# Altium schematic symbol library Connector-FPC.SchLib: 15 symbols
Pins are listed as number, name and electrical type; pins without a type are passive.

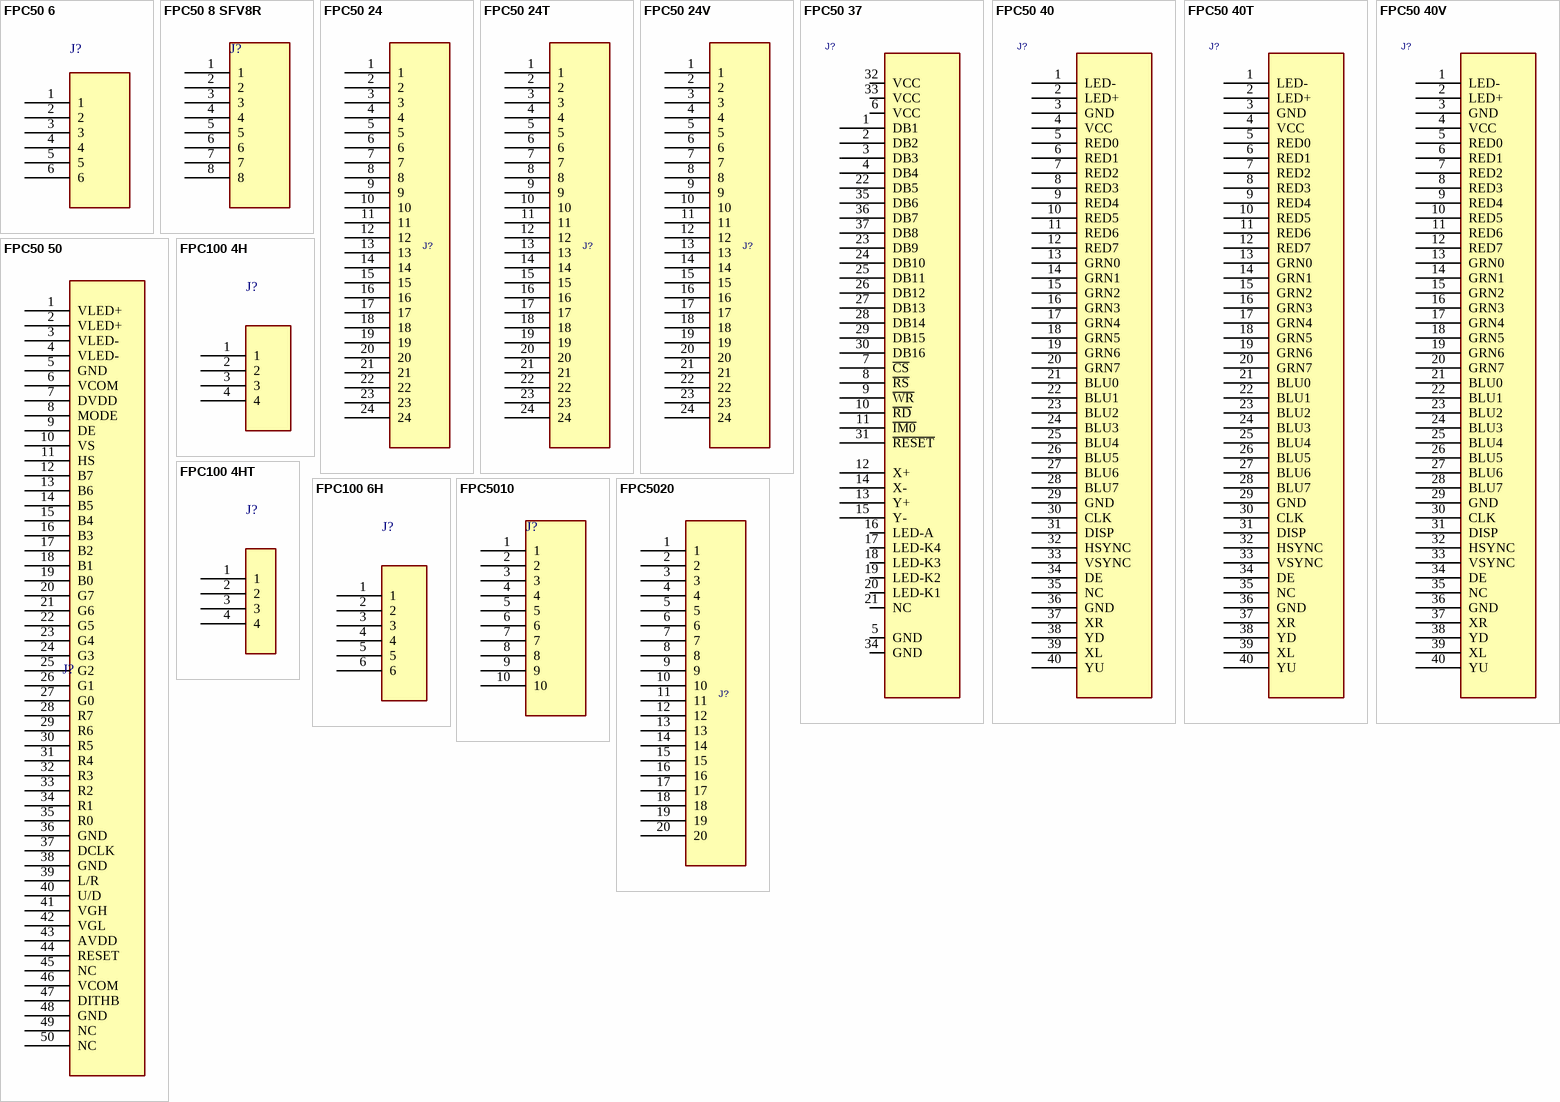
[diagram p0: symbols FPC50 6 to FPC5020]

## FPC50 6
designator J?
CONN, FPC, 0.50mm pitch, RightAngle, Bot. Contact, Hinge type; DatasheetVersion: 2022
footprint FPC50_6 (FFC-FPC 6pin pitch: 0.5mm FCI SFV6R1STBE1HLF)
pins: 1, 2, 3, 4, 5, 6

## FPC50 8 SFV8R
designator J?
CONN, FPC, 0.50mm pitch, RightAngle, Top. Contact, Slide type; DatasheetVersion: 2022
footprint FPC50_8_SFV8R (FPC 8pin pitch: 0.5mm FCI SFV8R-2STE1HLF)
pins: 1, 2, 3, 4, 5, 6, 7, 8

## FPC50 24
designator J?
CONN, FPC, 0.50mm pitch, RightAngle, Bot. Contact; DatasheetVersion: 2022
footprint FPC50_24 (FPC, FH12 Series; 24 Position; 0.5mm, Bottom Contact, FH12F-24S-0.5SH)
pins: 1, 2, 3, 4, 5, 6, 7, 8, 9, 10, 11, 12, 13, 14, 15, 16, 17, 18, 19, 20, 21, 22, 23, 24

## FPC50 24T
designator J?
CONN, FPC, 0.50mm pitch, RightAngle, Top Contact; DatasheetVersion: 2022
footprint FPC50_24T (Connector; FH12 Series; 24 Position; 0.5mm, Top Contact, FH12A-24S-0.5SH(55))
pins: 1, 2, 3, 4, 5, 6, 7, 8, 9, 10, 11, 12, 13, 14, 15, 16, 17, 18, 19, 20, 21, 22, 23, 24

## FPC50 24V
designator J?
CONN, FPC, 0.50mm pitch, Vertical; DatasheetVersion: 2022
footprint FPC50_24V (Connector; FH12 Series; 24 Position; 0.5mm, Vertical, FH12-24S-0.5SV)
pins: 1, 2, 3, 4, 5, 6, 7, 8, 9, 10, 11, 12, 13, 14, 15, 16, 17, 18, 19, 20, 21, 22, 23, 24

## FPC50 37
designator J?
CONN, FPC, 0.50mm pitch, RightAngle, Bot. Contact; DatasheetVersion: 2022
footprint FPC50_40 (FPC, pitch: 0.5mm, FH12-40S-0.5SH, molex 54132-4062)
pins: 1 DB1, 2 DB2, 3 DB3, 4 DB4, 5 GND, 6 VCC, 7 ~{CS}, 8 ~{RS}, 9 ~{WR}, 10 ~{RD}, 11 ~{IM0}, 12 X+, 13 Y+, 14 X-, 15 Y-, 16 LED-A, 17 LED-K4, 18 LED-K3, 19 LED-K2, 20 LED-K1, 21 NC, 22 DB5, 23 DB9, 24 DB10, 25 DB11, 26 DB12, 27 DB13, 28 DB14, 29 DB15, 30 DB16, 31 ~{RESET}, 32 VCC, 33 VCC, 34 GND, 35 DB6, 36 DB7, 37 DB8

## FPC50 40
designator J?
CONN, FPC, 0.50mm pitch, RightAngle, Bot. Contact; DatasheetVersion: 2022
footprint FPC50_40 (FPC, pitch: 0.5mm, FH12-40S-0.5SH, molex 54132-4062)
pins: 1 LED-, 2 LED+, 3 GND, 4 VCC, 5 RED0, 6 RED1, 7 RED2, 8 RED3, 9 RED4, 10 RED5, 11 RED6, 12 RED7, 13 GRN0, 14 GRN1, 15 GRN2, 16 GRN3, 17 GRN4, 18 GRN5, 19 GRN6, 20 GRN7, 21 BLU0, 22 BLU1, 23 BLU2, 24 BLU3, 25 BLU4, 26 BLU5, 27 BLU6, 28 BLU7, 29 GND, 30 CLK, 31 DISP, 32 HSYNC, 33 VSYNC, 34 DE, 35 NC, 36 GND, 37 XR, 38 YD, 39 XL, 40 YU

## FPC50 40T
designator J?
CONN, FPC, 0.50mm pitch, RightAngle, Top Contact; DatasheetVersion: 2022
footprint FPC50_40T (FPC, FH12 Series; 40 Position; 0.5mm, Top Contact)
pins: 1 LED-, 2 LED+, 3 GND, 4 VCC, 5 RED0, 6 RED1, 7 RED2, 8 RED3, 9 RED4, 10 RED5, 11 RED6, 12 RED7, 13 GRN0, 14 GRN1, 15 GRN2, 16 GRN3, 17 GRN4, 18 GRN5, 19 GRN6, 20 GRN7, 21 BLU0, 22 BLU1, 23 BLU2, 24 BLU3, 25 BLU4, 26 BLU5, 27 BLU6, 28 BLU7, 29 GND, 30 CLK, 31 DISP, 32 HSYNC, 33 VSYNC, 34 DE, 35 NC, 36 GND, 37 XR, 38 YD, 39 XL, 40 YU

## FPC50 40V
designator J?
CONN, FPC, 0.50mm pitch, Vertical; DatasheetVersion: 2022
footprint FPC50_40V (FPC, FH12 Series; 40 Position; 0.5mm,Vertical, FH12-40S-0.5SVA)
pins: 1 LED-, 2 LED+, 3 GND, 4 VCC, 5 RED0, 6 RED1, 7 RED2, 8 RED3, 9 RED4, 10 RED5, 11 RED6, 12 RED7, 13 GRN0, 14 GRN1, 15 GRN2, 16 GRN3, 17 GRN4, 18 GRN5, 19 GRN6, 20 GRN7, 21 BLU0, 22 BLU1, 23 BLU2, 24 BLU3, 25 BLU4, 26 BLU5, 27 BLU6, 28 BLU7, 29 GND, 30 CLK, 31 DISP, 32 HSYNC, 33 VSYNC, 34 DE, 35 NC, 36 GND, 37 XR, 38 YD, 39 XL, 40 YU

## FPC50 50
designator J?
CONN, FPC, 0.50mm pitch, RightAngle, Bot. Contact; DatasheetVersion: 2022
footprint FPC50_50 (Footprint not found)
pins: 1 VLED+, 2 VLED+, 3 VLED-, 4 VLED-, 5 GND, 6 VCOM, 7 DVDD, 8 MODE, 9 DE, 10 VS, 11 HS, 12 B7, 13 B6, 14 B5, 15 B4, 16 B3, 17 B2, 18 B1, 19 B0, 20 G7, 21 G6, 22 G5, 23 G4, 24 G3, 25 G2, 26 G1, 27 G0, 28 R7, 29 R6, 30 R5, 31 R4, 32 R3, 33 R2, 34 R1, 35 R0, 36 GND, 37 DCLK, 38 GND, 39 L/R, 40 U/D, 41 VGH, 42 VGL, 43 AVDD, 44 RESET, 45 NC, 46 VCOM, 47 DITHB, 48 GND, 49 NC, 50 NC

## FPC100 4H
designator J?
CONN, FPC, 1mm pitch, RightAngle, Bot. Contact; DatasheetVersion: 2022
footprint FPC100_4H (FPC, 1mm, Horizental, Bot. Contact, Molex 200529-0040)
pins: 1, 2, 3, 4

## FPC100 4HT
designator J?
CONN, FPC, 1mm pitch, RightAngle, Top Contact; DatasheetVersion: 2022
footprint FPC100_4HT (TE Connectivity 4-pin ZIF connector TE84953-4)
pins: 1, 2, 3, 4

## FPC100 6H
designator J?
CONN, FPC, 1mm pitch, RightAngle, Top Contact; DatasheetVersion: 2022
footprint FPC100_6H (FPC 6pin pitch: 1.0mm, Molex 52271-0679)
pins: 1, 2, 3, 4, 5, 6

## FPC5010
designator J?
CONN, FPC, 0.50mm pitch, RightAngle, Bot. Contact, Hinge type; DatasheetVersion: 2022
footprint FPC50_10 (FPC, 0.50mm, SMT,RA Bot. Contact, WE 687110149022)
pins: 1, 2, 3, 4, 5, 6, 7, 8, 9, 10

## FPC5020
designator J?
CONN, FPC, 0.50mm pitch, RightAngle, Bot. Contact; DatasheetVersion: 2022
footprint FPC50_20 (FH12-20S-0.5SH FFC-FPC pitch: 0.5mm)
pins: 1, 2, 3, 4, 5, 6, 7, 8, 9, 10, 11, 12, 13, 14, 15, 16, 17, 18, 19, 20